# Altium schematic symbol library UCC2897ARGPR.Schlib: 1 symbol
Pins are listed as number, name and electrical type; pins without a type are passive.

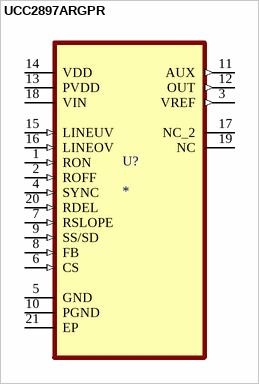
[diagram p0: symbol UCC2897ARGPR]

## UCC2897ARGPR
designator U?
Advanced Current-Mode Active Clamp PWM Controller
pins: 1 RON (in), 2 ROFF (in), 3 VREF (out), 4 SYNC (in), 5 GND, 6 CS (in), 7 RSLOPE (in), 8 FB (in), 9 SS/SD (in), 10 PGND, 11 AUX (out), 12 OUT (out), 13 PVDD (power), 14 VDD (power), 15 LINEUV (in), 16 LINEOV (in), 17 NC_2, 18 VIN (power), 19 NC, 20 RDEL (in), 21 EP